# Altium footprint library Passives.PcbLib: 75 footprints (part 2 of 5)
Each footprint in its own frame and in the unit in brackets; x right, y up, seen from the top. Pads: shape width x height; smd on the part's side, far side on the other; paste and mask are expansions set on the pad; w line width, h text height; cw(c..) or ccw(c..) is an arc to the next point about the centre after c.
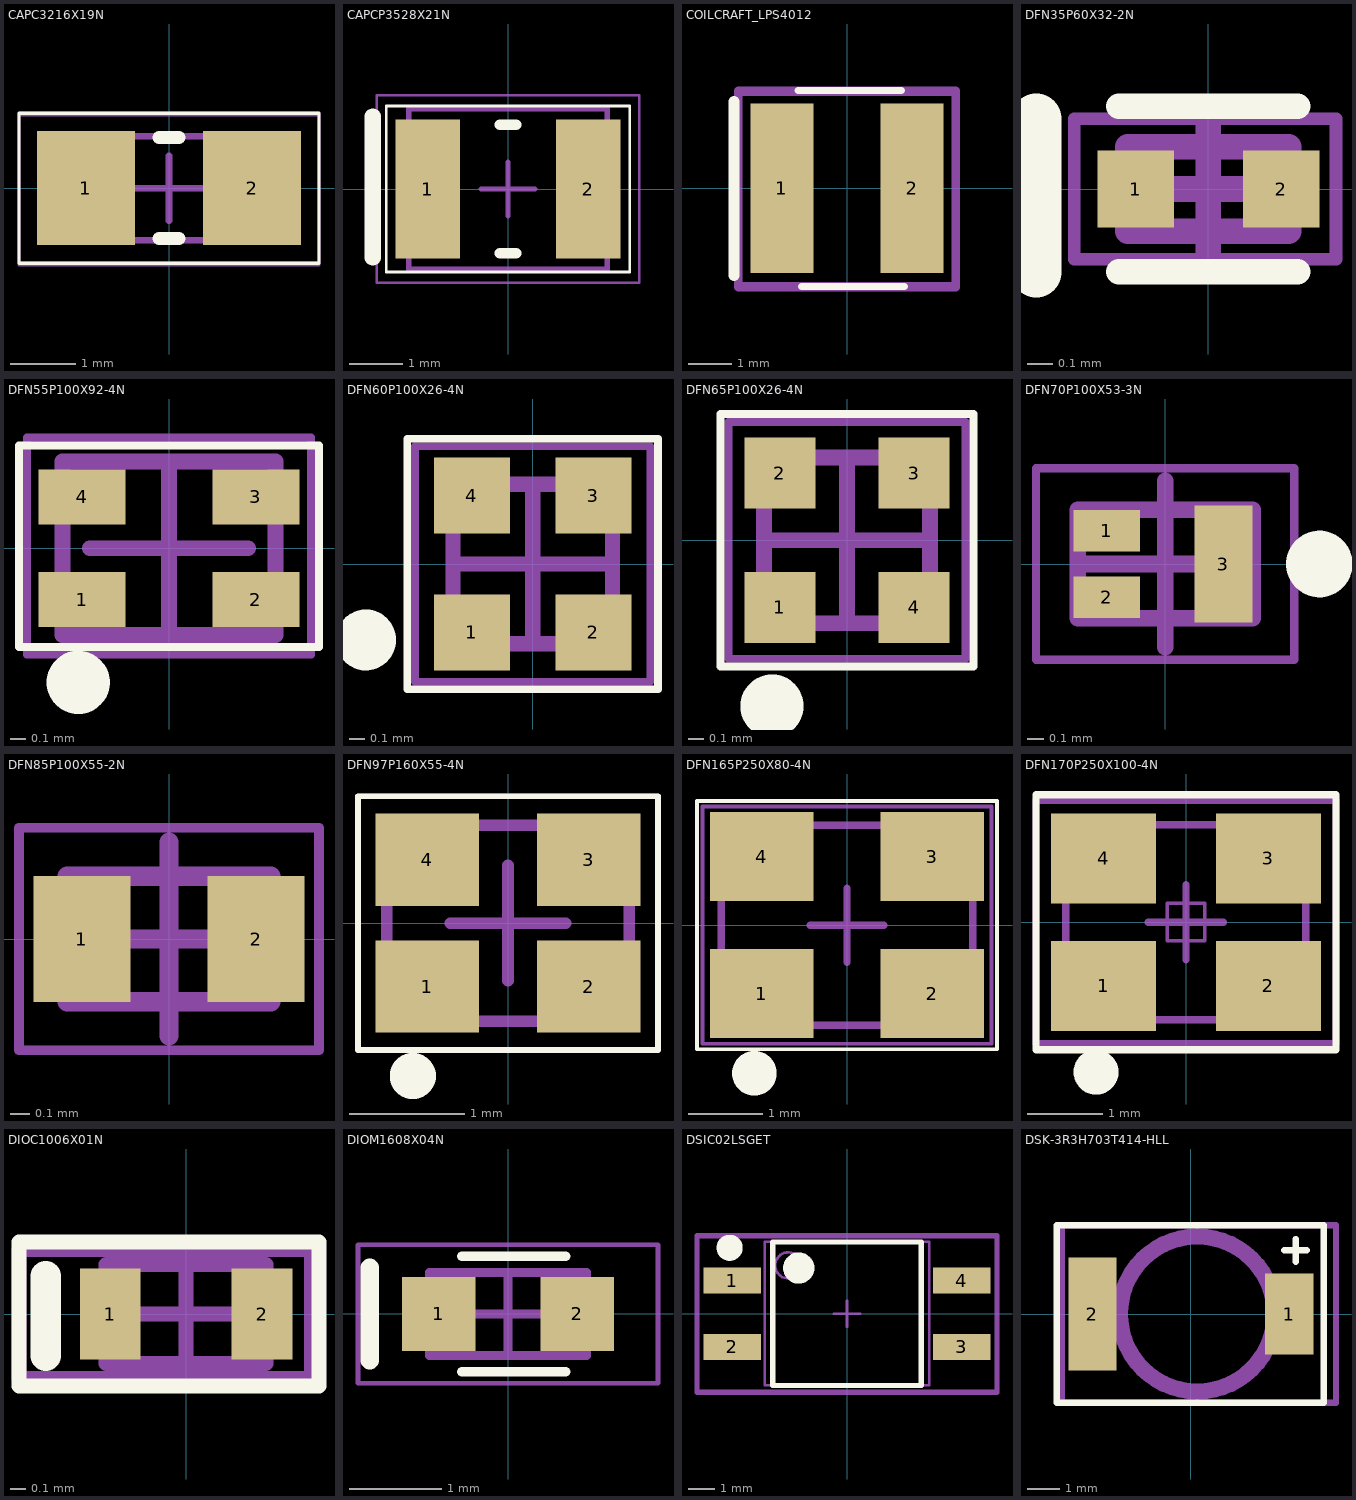
[diagram p1: the footprints below, top view; thin cyan lines are the x and y axes]

## CAPC3216X19N [mm] "Chip Capacitor, 2-Leads, Body 3.20x1.60mm, IPC Medium Density"
height 1.9
pads (2):
  rect 1.5x1.75 smd: 1(-1.275,0) 2(1.275,0)
Top Overlay:
  lines w0.05: -2.3,-1.15 -2.3,1.15 2.3,1.15 2.3,-1.15 -2.3,-1.15
  lines w0.2: -0.15,-0.775 0.15,-0.775 ; -0.15,0.775 0.15,0.775
Top 3D Body:
  lines w0.1: -1.6,-0.8 -1.6,0.8 1.6,0.8 1.6,-0.8 -1.6,-0.8
Top Assembly:
  lines w0.05: -2.3,-1.15 2.3,-1.15 2.3,1.15 -2.3,1.15 -2.3,-1.15
  lines w0.1: -0.5,0 0.5,0 ; 0,-0.5 0,0.5
Top Courtyard:
  lines w0.05: -2.3,-1.175 2.3,-1.175 2.3,1.125 -2.3,1.125 -2.3,-1.175
  text ".Designator" at -0.425,-0.25 h0.5
3D body: height 1.9, standoff 0, extent -0.6,-0.8 0.6,0.8
3D body: height 1.9, standoff 0, extent -1.6,-0.8 -0.6,0.8
3D body: height 1.9, standoff 0, extent 0.6,-0.8 1.6,0.8

## CAPCP3528X21N [mm] "Chip Capacitor, 2-Leads, Body 3.50x2.85mm, IPC Medium Density"
height 2.1
pads (2):
  rect 1.2x2.6 smd: 1(-1.5,0) 2(1.5,0)
Top Overlay:
  lines w0.05: -2.275,-1.55 2.275,-1.55 2.275,1.55 -2.275,1.55 -2.275,-1.55
  lines w0.2: -0.15,-1.2 0.15,-1.2 ; -0.15,1.2 0.15,1.2
  lines w0.3: -2.525,-1.275 -2.525,1.35
Top 3D Body:
  lines w0.1: -1.85,-1.5 -1.85,1.5 1.85,1.5 1.85,-1.5 -1.85,-1.5
Top Assembly:
  lines w0.05: -2.45,-1.75 -2.45,1.75 2.45,1.75 2.45,-1.75 -2.45,-1.75
  lines w0.1: -0.5,0 0.5,0 ; 0,-0.5 0,0.5
Top Courtyard:
  lines w0.05: -2.45,-1.75 2.45,-1.75 2.45,1.75 -2.45,1.75 -2.45,-1.75
  text ".Designator" at -2.155,-0.394 h1.52
3D body "CAPCP3528X21N.step": height 2.1, standoff 0, extent -1.85,-1.5 1.85,1.5

## COILCRAFT_LPS4012 [mm] "LPS4012 Series Low Profile  Shielded Power Inductors"
height 1.2
pads (2):
  rect 1.45x3.9 smd: 1(-1.5,0) 2(1.5,0)
Top Overlay:
  lines w0.16: -1.125,2.25 1.25,2.25 ; -1.05,-2.25 1.325,-2.25
  lines w0.254: -2.6,-2 -2.6,2
Top Assembly:
  lines w0.2: -2.5,-2.275 -2.5,2.225 2.5,2.225 2.5,-2.275 -2.5,-2.275
Top Courtyard:
  lines w0.2: -2.5,-2.25 2.5,-2.25 2.5,2.25 -2.5,2.25 -2.5,-2.25
  text ".Designator" at -0.9,-0.2 h0.5
3D body "User Library-LPS4012.STEP": height 0.81, standoff 0, extent -2,-2 2,2

## DFN35P60X32-2N [mm] "DFN, 2-Leads, Body 0.30x0.60mm, Pitch 0.35mm, IPC Medium Density"
height 0.32
pads (2):
  rect 0.3x0.3 smd mask+0.05: 1(-0.285,0) 2(0.285,0)
Top Overlay:
  lines w0.1: -0.35,-0.325 0.35,-0.325 ; -0.35,0.325 0.35,0.325
  lines w0.2: -0.675,-0.325 -0.675,0.275
Top 3D Body:
  lines w0.1: -0.315,-0.165 0.315,-0.165 0.315,0.165 -0.315,0.165 -0.315,-0.165
Top Assembly:
  lines w0.05: -0.525,-0.275 -0.525,0.275 0.5,0.275 0.5,-0.275 -0.525,-0.275
  lines w0.1: -0.375,0 0.35,0 ; 0,-0.25 0,0.25
Top Courtyard:
  lines w0.05: -0.525,-0.275 0.5,-0.275 0.5,0.275 -0.525,0.275 -0.525,-0.275
  text ".Designator" at -0.275,-0.2 h0.4
3D body "DFN35P60X32-2N.step": height 0.32, standoff 0, extent -0.315,-0.165 0.315,0.165

## DFN55P100X92-4N [mm] "DFN, 4-Leads, Body 1.25x1.00mm, Pitch 0.55mm, IPC Medium Density"
height 0.92
pads (4):
  rect 0.55x0.35 smd mask+0.05: 1(-0.55,-0.325) 2(0.55,-0.325) 3(0.55,0.325) 4(-0.55,0.325)
Top Overlay:
  circle w0.3: c-0.575,-0.85 r0.05
  lines w0.05: -0.95,-0.625 -0.95,0.65 0.95,0.65 0.95,-0.625 -0.95,-0.625
Top 3D Body:
  lines w0.1: -0.675,-0.55 -0.675,0.55 0.675,0.55 0.675,-0.55 -0.675,-0.55
Top Assembly:
  lines w0.05: -0.9,-0.675 0.9,-0.675 0.9,0.7 -0.9,0.7 -0.9,-0.675
  lines w0.1: -0.5,0 0.5,0 ; 0,-0.5 0,0.5
Top Courtyard:
  lines w0.05: -0.9,-0.675 0.9,-0.675 0.9,0.7 -0.9,0.7 -0.9,-0.675
  text ".Designator" at -0.4,-0.125 h0.4
3D body "DFN55P100X92-4N.step": height 0.92, standoff 0, extent -0.7,-0.55 0.7,0.55

## DFN60P100X26-4N [mm] "DFN, 4-Leads, Body 1.00x1.00mm, Pitch 0.60mm, IPC Medium Density"
height 0.26
pads (4):
  rect 0.5x0.5 smd: 1(-0.4,-0.45) 2(0.4,-0.45) 3(0.4,0.45) 4(-0.4,0.45)
Top Overlay:
  circle w0.3: c-1.1,-0.5 r0.05
  lines w0.05: -0.825,-0.825 0.825,-0.825 0.825,0.825 -0.825,0.825 -0.825,-0.825
Top 3D Body:
  lines w0.1: -0.525,-0.525 0.525,-0.525 0.525,0.525 -0.525,0.525 -0.525,-0.525
Top Assembly:
  lines w0.05: -0.775,-0.775 -0.775,0.775 0.775,0.775 0.775,-0.775 -0.775,-0.775
  lines w0.1: -0.5,0 0.5,0 ; 0,-0.5 0,0.5
Top Courtyard:
  lines w0.05: -0.775,-0.775 -0.775,0.775 0.775,0.775 0.775,-0.775 -0.775,-0.775
  text ".Designator" at -0.325,-0.1 h0.4
3D body "DFN60P100X26-4N.step": height 0.26, standoff 0, extent -0.525,-0.525 0.525,0.525

## DFN65P100X26-4N [mm] "DFN, 4-Leads, Body 1.00x1.00mm, Pitch 0.65mm, IPC Medium Density"
height 0.26
pads (4):
  rect 0.45x0.45 smd: 1(-0.425,-0.425) 2(-0.425,0.425) 3(0.425,0.425) 4(0.425,-0.425)
Top Overlay:
  circle w0.3: c-0.475,-1.05 r0.05
  lines w0.05: -0.8,-0.8 0.8,-0.8 0.8,0.8 -0.8,0.8 -0.8,-0.8
Top 3D Body:
  lines w0.1: -0.525,-0.525 0.525,-0.525 0.525,0.525 -0.525,0.525 -0.525,-0.525
Top Assembly:
  lines w0.05: -0.75,-0.75 -0.75,0.75 0.75,0.75 0.75,-0.75 -0.75,-0.75
  lines w0.1: -0.5,0 0.5,0 ; 0,-0.5 0,0.5
Top Courtyard:
  lines w0.05: -0.75,-0.75 -0.75,0.75 0.75,0.75 0.75,-0.75 -0.75,-0.75
  text ".Designator" at -0.375,-0.175 h0.4
3D body "DFN65P100X26-4N.step": height 0.26, standoff 0, extent -0.525,-0.525 0.525,0.525

## DFN70P100X53-3N [mm] "DFN, 3-Leads, Body 0.60x1.00mm, Pitch 0.70mm, IPC Medium Density"
height 0.53
pads (3):
  rect 0.4x0.25 smd mask+0: 1(-0.35,0.2) 2(-0.35,-0.2)
  rect 0.35x0.7 smd mask+0: 3(0.35,0)
Top Overlay:
  circle w0.2: c0.925,0 r0.1
Top Assembly:
  lines w0.1: -0.525,-0.325 -0.525,0.325 0.525,0.325 0.525,-0.325 -0.525,-0.325
Top Courtyard:
  lines w0.05: -0.775,-0.575 -0.775,0.575 0.775,0.575 0.775,-0.575 -0.775,-0.575
  lines w0.1: -0.5,0 0.5,0 ; 0,-0.5 0,0.5
  text ".Designator" at 0,0 h0.5
3D body "DFN70P100X53-3N.step": height 0.53, standoff 0, extent -0.525,-0.325 0.525,0.325

## DFN85P100X55-2N [mm] "DFN, 2-Leads, Body 0.60x1.00mm, Pitch 0.85mm, IPC Medium Density"
height 0.55
pads (2):
  rect 0.5x0.65 smd mask+0.05: 1(-0.45,0) 2(0.45,0)
Top Assembly:
  lines w0.1: -0.525,-0.325 -0.525,0.325 0.525,0.325 0.525,-0.325 -0.525,-0.325
Top Courtyard:
  lines w0.05: -0.775,-0.575 -0.775,0.575 0.775,0.575 0.775,-0.575 -0.775,-0.575
  lines w0.1: -0.5,0 0.5,0 ; 0,-0.5 0,0.5
  text ".Designator" at -1.4,-0.158 h0.7
3D body "DFN85P100X55-2N.step": height 0.55, standoff 0, extent -0.7,-0.325 0.7,0.325

## DFN97P160X55-4N [mm] "DFN, 4-Leads, Body 2.00x1.60mm, Pitch 0.97mm, IPC Medium Density"
height 0.55
pads (4):
  rect 0.9x0.8 smd: 1(-0.7,-0.55) 2(0.7,-0.55) 3(0.7,0.55) 4(-0.7,0.55)
Top Overlay:
  circle w0.3: c-0.825,-1.325 r0.05
  lines w0.05: -1.3,-1.1 -1.3,1.1 1.3,1.1 1.3,-1.1 -1.3,-1.1
Top 3D Body:
  lines w0.1: -1.05,-0.85 -1.05,0.85 1.05,0.85 1.05,-0.85 -1.05,-0.85
Top Assembly:
  lines w0.05: -1.3,-1.1 1.3,-1.1 1.3,1.1 -1.3,1.1 -1.3,-1.1
  lines w0.1: -0.5,0 0.5,0 ; 0,-0.5 0,0.5
Top Courtyard:
  lines w0.05: -1.3,-1.1 1.3,-1.1 1.3,1.1 -1.3,1.1 -1.3,-1.1
  text ".Designator" at -0.45,-0.15 h0.4
3D body "DFN97P160X55-4N.step": height 0.55, standoff 0, extent -1.05,-0.85 1.05,0.85

## DFN165P250X80-4N [mm] "DFN, 4-Leads, Body 3.20x2.50mm, Pitch 1.65mm, IPC Medium Density"
height 0.8
pads (4):
  rect 1.4x1.2 smd: 1(-1.15,-0.925) 2(1.15,-0.925) 3(1.15,0.925) 4(-1.15,0.925)
Top Overlay:
  circle w0.5: c-1.25,-2 r0.05
  lines w0.05: -2.025,-1.675 -2.025,1.675 2.025,1.675 2.025,-1.675 -2.025,-1.675
Top 3D Body:
  lines w0.1: -1.7,-1.35 -1.7,1.35 1.7,1.35 1.7,-1.35 -1.7,-1.35
Top Assembly:
  lines w0.05: -1.95,-1.6 1.95,-1.6 1.95,1.6 -1.95,1.6 -1.95,-1.6
  lines w0.1: -0.5,0 0.5,0 ; 0,-0.5 0,0.5
Top Courtyard:
  lines w0.05: -1.95,-1.6 1.95,-1.6 1.95,1.6 -1.95,1.6 -1.95,-1.6
  text ".Designator" at -0.35,-0.175 h0.4
3D body "DFN165P250X80-4N.step": height 0.8, standoff 0, extent -1.7,-1.425 1.7,1.4

## DFN170P250X100-4N [mm] "DFN, 4-Leads, Body 3.15x2.50mm, Pitch 1.70mm, IPC Medium Density"
height 1
pads (4):
  rect 1.4x1.2 smd: 1(-1.1,-0.85) 2(1.1,-0.85) 3(1.1,0.85) 4(-1.1,0.85)
Top Overlay:
  circle w0.3: c-1.2,-2 r0.15
  lines w0.1: -2,-1.7 2,-1.7 2,1.7 -2,1.7 -2,-1.7
Top 3D Body:
  lines w0.1: -1.6,-1.3 -1.6,1.3 1.6,1.3 1.6,-1.3 -1.6,-1.3
Top Assembly:
  lines w0.05: -0.25,-0.25 -0.25,0.25 0.25,0.25 0.25,-0.25 -0.25,-0.25
  lines w0.1: -0.5,0 0.5,0 ; 0,-0.5 0,0.5
Top Courtyard:
  lines w0.1: -2,1.6 -2,-1.625 2,-1.625 2,1.625 -2,1.625
  text ".Designator" at -0.475,-0.175 h0.4
3D body: height 1, standoff 0.01, extent -1.6,-1.3 1.6,1.3

## DIOC1006X01N [mm] "Chip Diode, 2-Leads, Body 1.00x0.60mm, IPC Medium Density"
height 0.12
pads (2):
  rect 0.4x0.6 smd: 1(-0.5,0) 2(0.5,0)
Top Overlay:
  lines w0.1: -1.1,-0.475 -1.1,0.475 0.875,0.475 0.875,-0.475 -1.1,-0.475
  lines w0.2: -0.925,-0.275 -0.925,0.25
Top 3D Body:
  lines w0.1: -0.525,-0.325 0.525,-0.325 0.525,0.325 -0.525,0.325 -0.525,-0.325
Top Assembly:
  lines w0.1: -0.325,0 0.325,0 ; 0,-0.325 0,0.325 ; -1.1,-0.425 0.825,-0.425 0.825,0.425 -1.1,0.425 -1.1,-0.425
Top Courtyard:
  lines w0.1: -1.1,-0.425 -1.1,0.425 0.825,0.425 0.825,-0.425 -1.1,-0.425
  text ".Designator" at -0.15,-0.1 h0.3
3D body "DIOC1006X01N.step": height 0.12, standoff 0, extent -0.525,-0.325 0.525,0.325

## DIOM1608X04N [mm] "Molded Diode, 2-Leads, Body 1.60x0.80mm, IPC Medium Density"
height 0.4
pads (2):
  rect 0.8x0.8 smd: 1(-0.75,0) 2(0.75,0)
Top Overlay:
  lines w0.1: -0.5,-0.625 0.625,-0.625 ; -0.5,0.625 0.625,0.625
  lines w0.2: -1.5,-0.5 -1.5,0.5
Top 3D Body:
  rectangle: -0.85,-0.45 -0.621,0.45
  lines w0.1: -0.85,-0.45 -0.85,0.45 0.85,0.45 0.85,-0.45 -0.85,-0.45
Top Assembly:
  lines w0.05: -1.625,-0.75 1.625,-0.75 1.625,0.75 -1.625,0.75 -1.625,-0.75
  lines w0.1: -0.45,0 0.45,0 ; 0,-0.45 0,0.45
Top Courtyard:
  lines w0.05: -1.625,-0.75 -1.625,0.75 1.625,0.75 1.625,-0.75 -1.625,-0.75
  text ".Designator" at -0.45,-0.175 h0.4
3D body: height 0.4, standoff 0, extent -0.85,-0.45 0.85,0.45

## DSIC02LSGET [mm] "SOIC, 4-Leads, Body 5.08x6.00mm, Pitch 1.27mm, IPC Medium Density"
height 3.75
pads (4):
  rect 2.2x1 smd: 1(-4.4,1.27) 2(-4.4,-1.27) 3(4.4,-1.27) 4(4.4,1.27)
Top Overlay:
  circle w0.6: c-1.85,1.75 r0.3
  circle w0.5: c-4.5,2.525 r0.25
  lines w0.2: -2.85,-2.75 2.85,-2.75 2.85,2.75 -2.85,2.75 -2.85,-2.75
Top 3D Body:
  circle w0.1: c-2.25,1.85 r0.5
  lines w0.1: -3.15,-2.75 3.15,-2.75 3.15,2.75 -3.15,2.75 -3.15,-2.75
Top Assembly:
  lines w0.1: -0.5,0 0.5,0 ; 0,-0.5 0,0.5
  lines w0.2: -5.75,-3 5.75,-3 5.75,3 -5.75,3 -5.75,-3
Top Courtyard:
  lines w0.2: -5.75,-3.025 5.75,-3.025 5.75,2.975 -5.75,2.975 -5.75,-3.025
  text ".Designator" at -4.571,-0.538 h1.52
3D body "DSIC02LSGET.step": height 3.75, standoff 0, extent -4.65,-2.75 4.65,2.75

## DSK-3R3H703T414-HLL [mm] "CAP 70MF 3.3V SMD"
height 1.66
pads (2):
  rect 1.5x2.5 smd: 1(3.05,0)
  rect 1.5x3.5 smd: 2(-3.05,0)
Top Overlay:
  lines w0.2: 2.9,1.975 3.6,1.975 ; 3.25,1.625 3.25,2.325 ; -4.15,-2.75 4.125,-2.75 4.125,2.75 -4.15,2.75 -4.15,-2.75
Top 3D Body:
  circle w0.5: c0.2,0 r2.4
Top Assembly:
  lines w0.2: -4,-2.75 -4,2.75 4.5,2.75 4.5,-2.75 -4,-2.75
Top Courtyard:
  lines w0.2: -4,-2.75 -4,2.75 4.5,2.75 4.5,-2.75 -4,-2.75
  text ".Designator" at -0.775,-0.2 h0.4
3D body: height 1.66, standoff 1.56, extent -2.7,-1.5 0.6,1.5
3D body: height 1.56, standoff 0, extent -2.7,-1.5 -2.5,1.5
3D body: height 0.1, standoff 0, extent 0,-1 3.5,1
3D body: height 0.1, standoff 0, extent -3.7,-1.5 -2.7,1.5
3D body: height 1.6, standoff 0.1, extent -2.2,-2.399 2.6,2.399